# Altium schematic symbol library ISL9V5036P3-F085.SchLib: 1 symbol
Pins are listed as number, name and electrical type; pins without a type are passive.

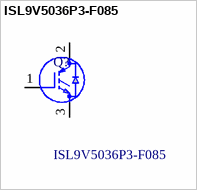
[diagram p0: symbol ISL9V5036P3-F085]

## ISL9V5036P3-F085
designator Q?
Logic Level Gate Drive; Industry Standard TO-220 package; SCIS Energy = 500mJ at TJ = 25; Qualified to AEC Q101; RoHS Compliant; Manufacturer_Name: onsemi; Geometry.Height: 4.7mm; Manufacturer_Part_Number: ISL9V5036P3-F085; Mouser Part Number: 512-ISL9V5036P3-F085; Mouser Price/Stock: https://www.mouser.co.uk/ProductDetail/onsemi-Fairchild/ISL9V5036P3-F085?qs=0lQeLiL1qyZrd8MAKfN5lQ%3D%3D; Arrow Part Number: ISL9V5036P3-F085; Arrow Price/Stock: https://www.arrow.com/en/products/isl9v5036p3-f085/on-semiconductor?utm_currency=USD&region=nac; Datasheet Link: https://www.onsemi.com/pub/Collateral/ISL9V5036S3ST-D.PDF
footprint TO254P470X1016X2019-3P
pins: 1 G, 2 C, 3 E